# Altium footprint library TE_104346-2.PcbLib: 1 footprints
Each footprint in its own frame and in the unit in brackets; x right, y up, seen from the top. Pads: shape width x height; smd on the part's side, far side on the other; paste and mask are expansions set on the pad; w line width, h text height; cw(c..) or ccw(c..) is an arc to the next point about the centre after c.
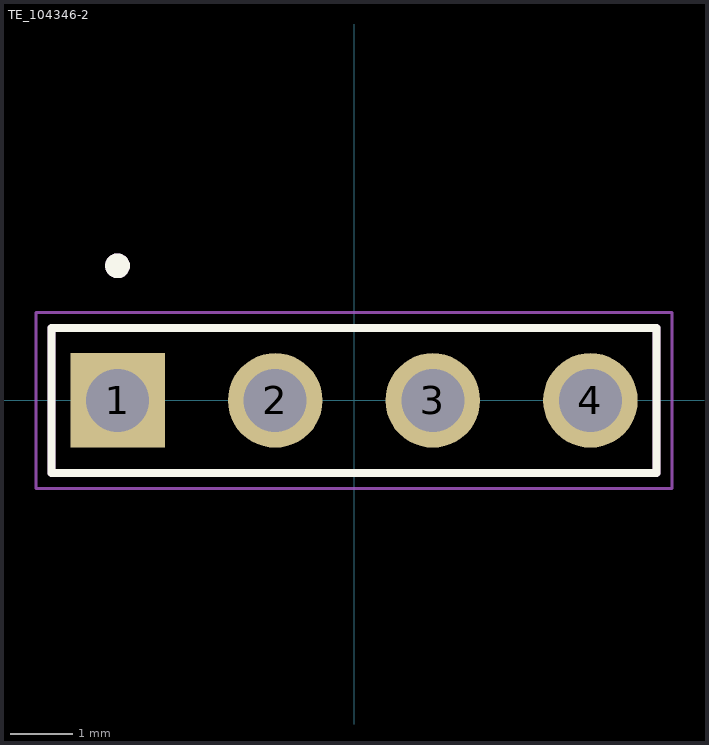
[diagram p0: the footprint, top view; thin cyan lines are the x and y axes]

## TE_104346-2 [mil]
pads (4):
  rect 60x60 / inner round 60 / far side rect 60x60 hole 40 mask+4.02: 1(-150,0)
  round 60 hole 40 mask+4.02: 2(-50,0) 3(50,0) 4(150,0)
Top Overlay:
  circle w7.87: c-150,85.35 r3.94
  lines w5: -192.01,-45.98 192.01,-45.98 192.01,45.98 -192.01,45.98 -192.01,-45.98
Assembly Top:
  circle w7.87: c-150,85.35 r3.94
  lines w5: -192.01,-45.98 192.01,-45.98 192.01,45.98 -192.01,45.98 -192.01,-45.98
Courtyard Top:
  lines w1.97: -201.85,-55.83 201.85,-55.83 201.85,55.83 -201.85,55.83 -201.85,-55.83
3D body "step_temp.STEP": height 46, standoff -46, extent -192,-230 192,210